# Altium footprint library 3POL_SMD0805.PcbLib: 1 footprints
Each footprint in its own frame and in the unit in brackets; x right, y up, seen from the top. Pads: shape width x height; smd on the part's side, far side on the other; paste and mask are expansions set on the pad; w line width, h text height; cw(c..) or ccw(c..) is an arc to the next point about the centre after c.
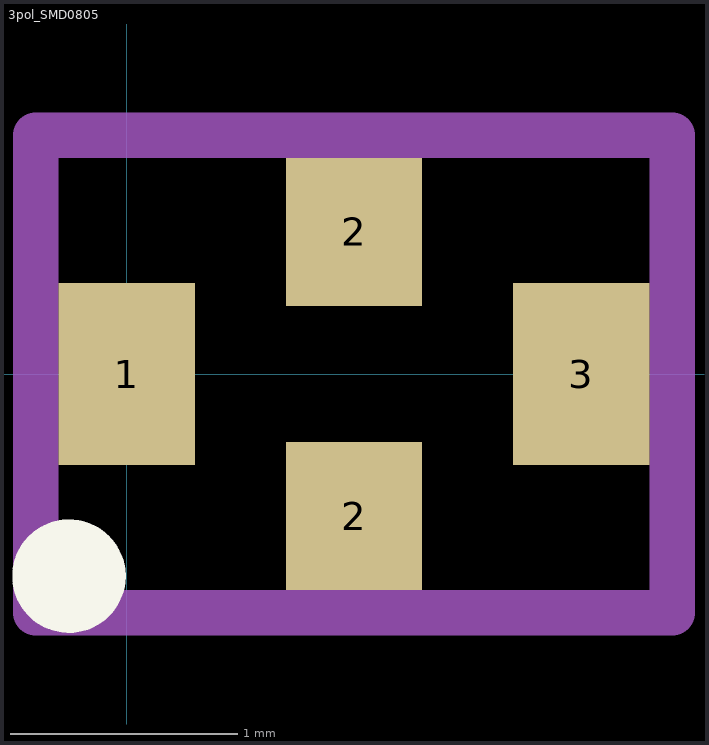
[diagram p0: the footprint, top view; thin cyan lines are the x and y axes]

## 3pol_SMD0805 [mm]
pads (4):
  rect 0.6x0.8 smd paste+0 mask+0: 1(0,0) 3(2,0)
  rect 0.6x0.65 smd paste+0 mask+0: 2(1,-0.625) 2(1,0.625)
Top Overlay:
  circle w0.25: c-0.254,-0.889 r0.125
Top Courtyard:
  lines w0.2: -0.4,-1.05 2.4,-1.05 2.4,1.05 -0.4,1.05 -0.4,-1.05
3D body "Cap_Murata_NFM21CC102R1H3D_eec.STEP": height 0.95, standoff 0, extent 0,-0.625 2,0.625